# EAGLE library part SENSOR_BMP280 (library akita)
Bosh BMP280, Temp./Humi./Pressure sensor
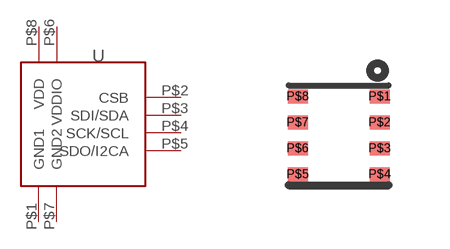
[diagram p181: symbol with the pads of BOSH_SMD8; footprint BOSH_SMD8]

Designator prefix U

## SENSOR_BMP280  [BOSH_SMD8]
P$1  GND1
P$2  CSB
P$3  SDI/SDA
P$4  SCK/SCL
P$5  SDO/I2CA
P$6  VDDIO
P$7  GND2
P$8  VDD

## Footprint BOSH_SMD8 (pad centres in mm)
Bosh SMD 8p for MEMS sensor, BMP280 etc.
smd 0.5 x 0.35: P$1 1.025,0.975; P$2 1.025,0.325; P$3 1.025,-0.325; P$4 1.025,-0.975; P$5 -1.025,-0.975; P$6 -1.025,-0.325; P$7 -1.025,0.325; P$8 -1.025,0.975